# Altium schematic symbol library Nixie_Tube_Clock.SchLib: 14 symbols
Pins are listed as number, name and electrical type; pins without a type are passive.

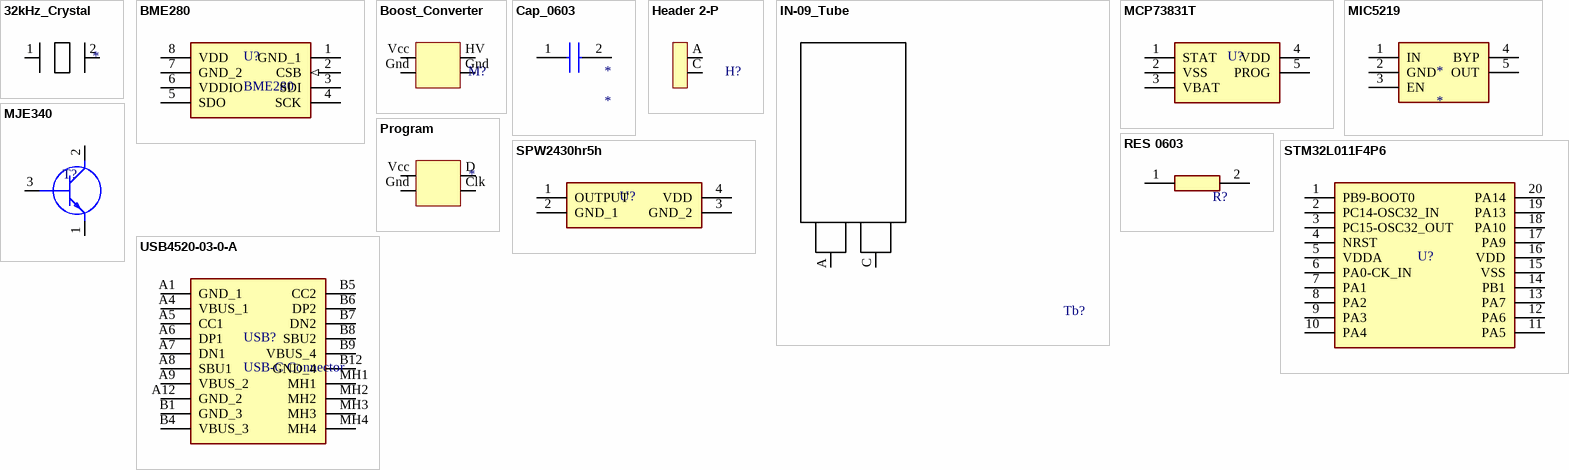
[diagram p0: symbols 32kHz_Crystal to USB4520-03-0-A]

## 32kHz_Crystal
designator *  (value not drawn)
pins: 1, 2

## BME280
designator U?
pins: 1 GND_1 (power), 2 CSB (in), 3 SDI, 4 SCK, 5 SDO, 6 VDDIO (power), 7 GND_2 (power), 8 VDD (power)

## Boost_Converter
designator M?  (value not drawn)
footprint Boost_Converter
pins: Gnd, Gnd, HV, Vcc

## Cap_0603
designator *
footprint CAP_0603
pins: 1, 2

## Header 2-P
designator H?  (value not drawn)
footprint 2p
pins: A, C

## IN-09_Tube
designator Tb?  (value not drawn)
footprint NixeiTube
pins: A, C

## MCP73831T
designator U?  (value not drawn)
pins: 1 STAT, 2 VSS, 3 VBAT, 4 VDD, 5 PROG

## MIC5219
designator *
footprint sot95p2
pins: 1 IN, 2 GND, 3 EN, 4 BYP, 5 OUT

## MJE340
designator T?  (value not drawn)
pins: 1 E, 2 C, 3 B

## Program
designator *  (value not drawn)
footprint 4P
pins: Clk, D, Gnd, Vcc

## RES 0603
designator R?  (value not drawn)
footprint RES_0603
pins: 1, 2

## SPW2430hr5h
designator U?  (value not drawn)
pins: 1 OUTPUT, 2 GND_1, 3 GND_2, 4 VDD

## STM32L011F4P6
designator U?, comment Controller  (value not drawn)
pins: 1 PB9-BOOT0, 2 PC14-OSC32_IN, 3 PC15-OSC32_OUT, 4 NRST, 5 VDDA, 6 PA0-CK_IN, 7 PA1, 8 PA2, 9 PA3, 10 PA4, 11 PA5, 12 PA6, 13 PA7, 14 PB1, 15 VSS, 16 VDD, 17 PA9, 18 PA10, 19 PA13, 20 PA14

## USB4520-03-0-A
designator USB?, comment USB-C Connector
footprint USB
pins: A1 GND_1, A4 VBUS_1, A5 CC1, A6 DP1, A7 DN1, A8 SBU1, A9 VBUS_2, A12 GND_2, B1 GND_3, B4 VBUS_3, B5 CC2, B6 DP2, B7 DN2, B8 SBU2, B9 VBUS_4, B12 GND_4, MH1, MH2, MH3, MH4